# Altium schematic symbol library MAX8510EXK30&plus_T.SchLib: 1 symbol
Pins are listed as number, name and electrical type; pins without a type are passive.

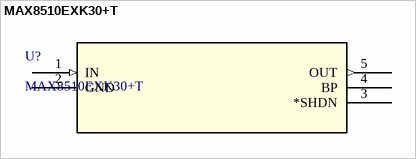
[diagram p0: symbol MAX8510EXK30+T]

## MAX8510EXK30+T
designator U?
Ultra-Low-Noise, High PSRR, Low-Dropout, 120mA Linear Regulators; Manufacturer_Name: Analog Devices Inc; Copyright: Copyright (C) 2026 Ultra Librarian. All rights reserved.; Manufacturer_Part_Number: MAX8510EXK30+T; RefDes: RefDes; Type: Type
footprint 21-0076E_MXM
pins: 1 IN (in), 2 GND (power), 3 *SHDN, 4 BP, 5 OUT (out)